# Altium schematic symbol library Schlib1.SchLib: 1 symbol
Pins are listed as number, name and electrical type; pins without a type are passive.

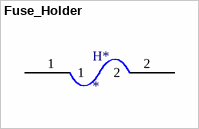
[diagram p0: symbol Fuse_Holder]

## Fuse_Holder
designator H*
Fuse Base Holder T5x20
footprint Fuse_Holder
pins: 1, 2